# EAGLE library part B8B-PH-K-S (library lippa)
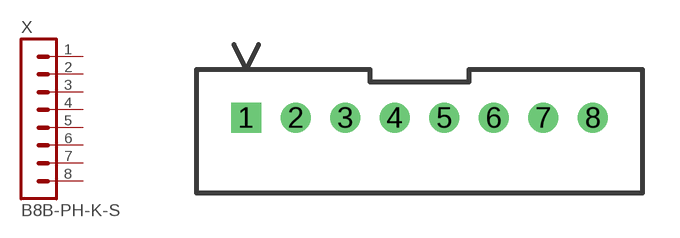
[diagram p6: symbol with the pads of B8B-PH-K-S; footprint B8B-PH-K-S]

Designator prefix X

## B8B-PH-K-S  [B8B-PH-K-S]
1  1  pas
2  2  pas
3  3  pas
4  4  pas
5  5  pas
6  6  pas
7  7  pas
8  8  pas

## Footprint B8B-PH-K-S (pad centres in mm)
drill 0.7 square: 1 -7,0.55
drill 0.7: 2 -5,0.55; 3 -3,0.55; 4 -1,0.55; 5 1,0.55; 6 3,0.55; 7 5,0.55; 8 7,0.55